# EAGLE library part DRV8313 (library lpclib)
DRV8313 Datasheet <http://www.ti.com/lit/ds/symlink/drv8313.pdf>
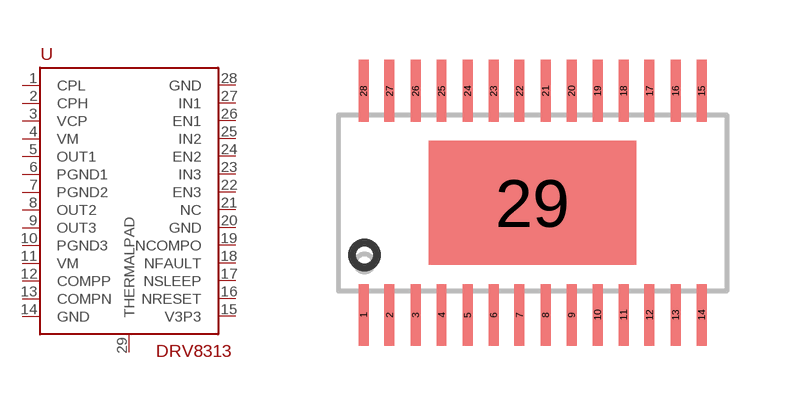
[diagram p2: symbol with the pads of R-PDSO-G28; footprint R-PDSO-G28]

Designator prefix -

## DRV8313  [R-PDSO-G28]
1  CPL  pwr
2  CPH  pwr
3  VCP  pwr
4  VM  pwr
5  OUT1  out
6  PGND1  pwr
7  PGND2  pwr
8  OUT2  out
9  OUT3  out
10  PGND3  pwr
11  VM  pwr
12  COMPP  in
13  COMPN  in
14  GND  pwr
15  V3P3  pwr
16  NRESET  in
17  NSLEEP  in
18  NFAULT  out
19  NCOMPO  out
20  GND  pwr
21  NC  nc
22  EN3  in
23  IN3  in
24  EN2  in
25  IN2  in
26  EN1  in
27  IN1  in
28  GND  pwr
29  THERMALPAD  pwr

## Footprint R-PDSO-G28 (pad centres in mm)
R-PDSO-G28 package for the drv8313 motor driver
smd 0.25 x 1.55: 1 -4.225,-2.8; 2 -3.575,-2.8; 3 -2.925,-2.8; 4 -2.275,-2.8; 5 -1.625,-2.8; 6 -0.975,-2.8; 7 -0.325,-2.8; 8 0.325,-2.8; 9 0.975,-2.8; 10 1.625,-2.8; 11 2.275,-2.8; 12 2.925,-2.8; 13 3.575,-2.8; 14 4.225,-2.8; 15 4.225,2.8; 16 3.575,2.8; 17 2.925,2.8; 18 2.275,2.8; 19 1.625,2.8; 20 0.975,2.8; 21 0.325,2.8; 22 -0.325,2.8; 23 -0.975,2.8; 24 -1.625,2.8; 25 -2.275,2.8; 26 -2.925,2.8; 27 -3.575,2.8; 28 -4.225,2.8
smd 5.18 x 3.1: 29 0,0